# Altium footprint library MaWei.PcbLib: 84 footprints (part 4 of 6)
Each footprint in its own frame and in the unit in brackets; x right, y up, seen from the top. Pads: shape width x height; smd on the part's side, far side on the other; paste and mask are expansions set on the pad; w line width, h text height; cw(c..) or ccw(c..) is an arc to the next point about the centre after c.
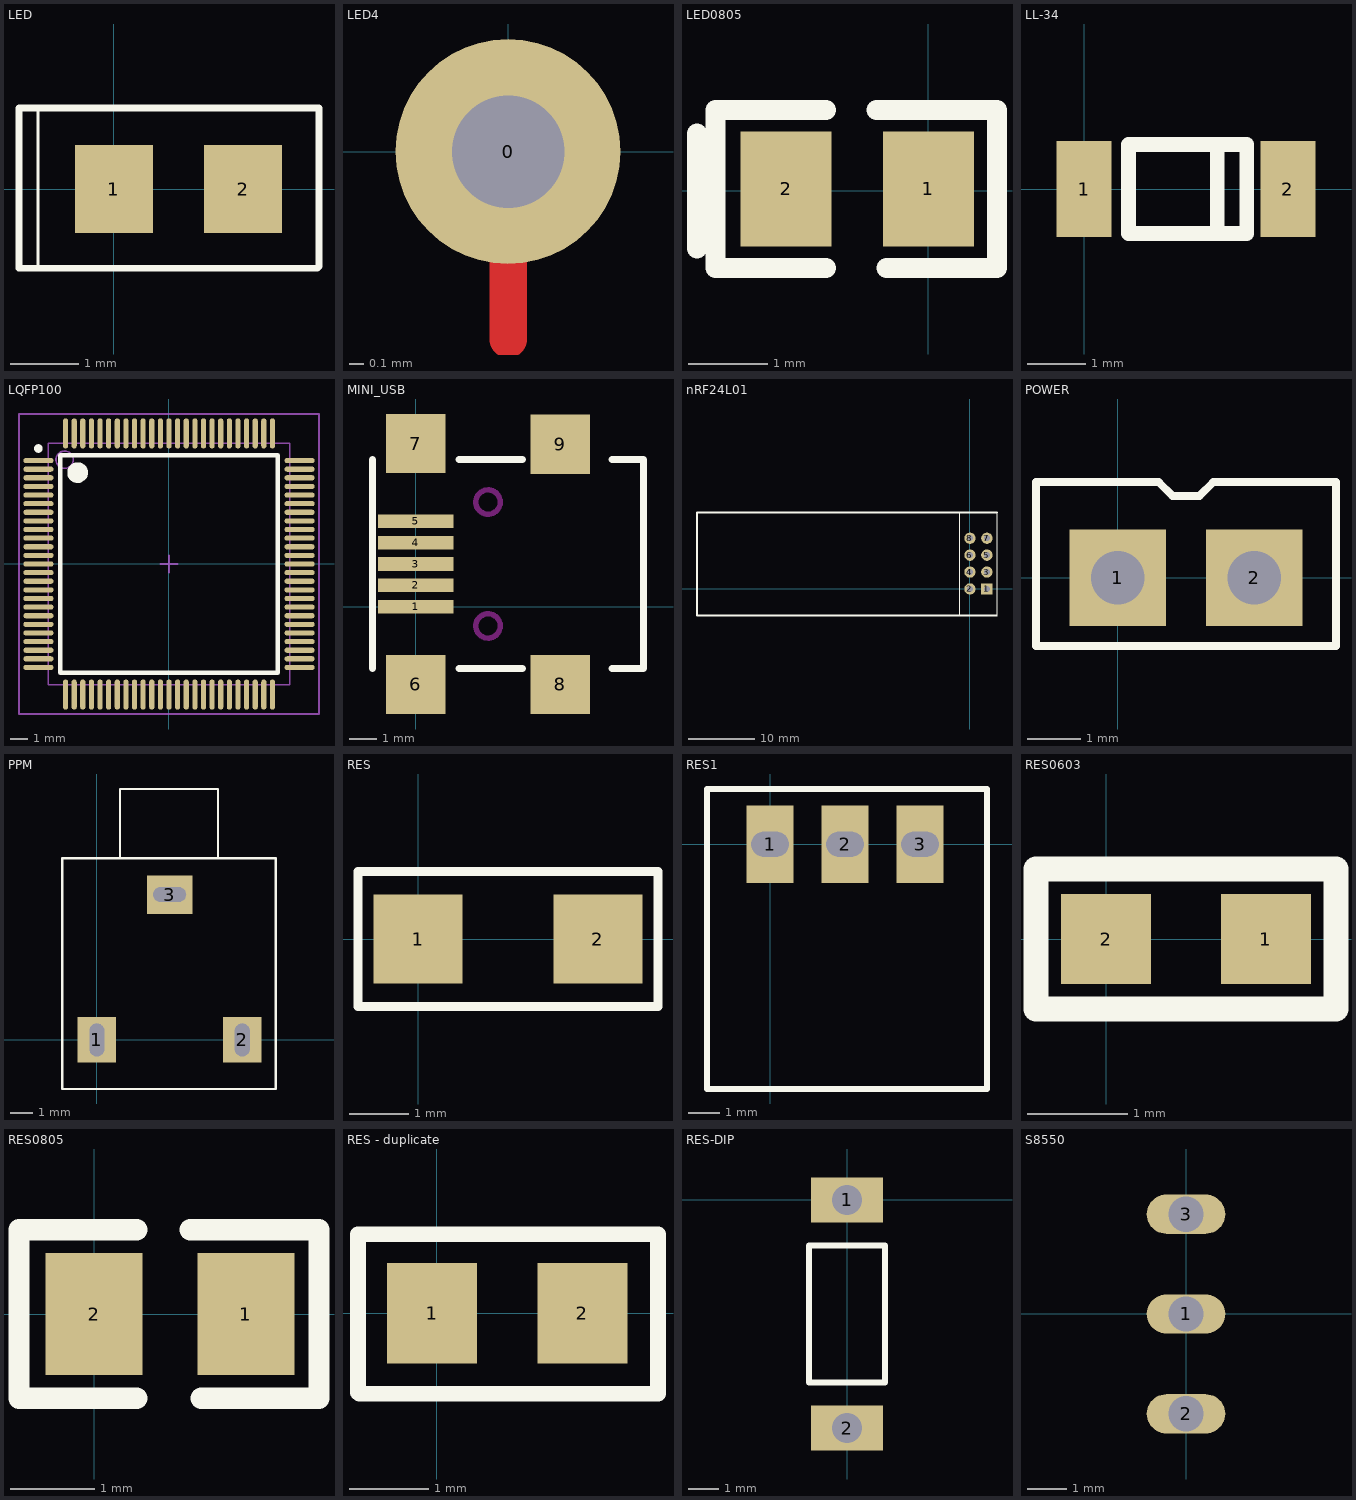
[diagram p3: the footprints below, top view; thin cyan lines are the x and y axes]

## LED [mm]
pads (2):
  rect 1.15x1.3 smd: 1(0,0) 2(1.905,0)
Top Overlay:
  lines w0.05: -1.118,-1.194 -1.118,1.168
  lines w0.1: -1.397,-1.168 -1.397,1.194 -1.092,1.194 3.023,1.194 3.023,-1.143 2.997,-1.168 -1.397,-1.168

## LED4 [mil]
pads (1):
  round 60 hole 30: 0(0,0)
Top Layer:
  lines w10: 0,-50 0,0

## LED0805 [mm] "LED0805"
pads (2):
  rect 1.15x1.45 smd: 1(0,0.025) 2(-1.8,0.025)
Top Overlay:
  lines w0.254: -2.925,-0.725 -2.925,0.725 ; -1.292,-0.975 -2.689,-0.975 -2.689,1.025 -1.292,1.025 ; -0.657,1.025 0.867,1.025 0.867,-0.975 -0.53,-0.975
3D body: height 0.5, standoff 0, extent -1.9,-0.575 0.1,0.625

## LL-34 [mm] "LL-34"
pads (2):
  rect 0.95x1.65 smd: 1(0,0) 2(3.5,0)
Top Overlay:
  lines w0.254: 2.286,-0.762 2.286,0.762 ; 0.762,-0.762 2.794,-0.762 2.794,0.762 0.762,0.762 0.762,-0.762
3D body: height 1.4, standoff 0, extent 0.078,-0.7 3.478,0.7

## LQFP100 [mm] "LQFP100"
height 1.6
pads (100):
  oval 1.75x0.3 smd: 1(-7.575,6) 2(-7.575,5.5) 3(-7.575,5) 4(-7.575,4.5) 5(-7.575,4) 6(-7.575,3.5) 7(-7.575,3) 8(-7.575,2.5) 9(-7.575,2) 10(-7.575,1.5) 11(-7.575,1) 12(-7.575,0.5) 13(-7.575,0) 14(-7.575,-0.5) 15(-7.575,-1) 16(-7.575,-1.5) 17(-7.575,-2) 18(-7.575,-2.5) 19(-7.575,-3) 20(-7.575,-3.5) 21(-7.575,-4) 22(-7.575,-4.5) 23(-7.575,-5) 24(-7.575,-5.5) 25(-7.575,-6) 51(7.575,-6) 52(7.575,-5.5) 53(7.575,-5) 54(7.575,-4.5) 55(7.575,-4) 56(7.575,-3.5) 57(7.575,-3) 58(7.575,-2.5) 59(7.575,-2) 60(7.575,-1.5) 61(7.575,-1) 62(7.575,-0.5) 63(7.575,0) 64(7.575,0.5) 65(7.575,1) 66(7.575,1.5) 67(7.575,2) 68(7.575,2.5) 69(7.575,3) 70(7.575,3.5) 71(7.575,4) 72(7.575,4.5) 73(7.575,5) 74(7.575,5.5) 75(7.575,6)
  oval 0.3x1.75 smd: 26(-6,-7.575) 27(-5.5,-7.575) 28(-5,-7.575) 29(-4.5,-7.575) 30(-4,-7.575) 31(-3.5,-7.575) 32(-3,-7.575) 33(-2.5,-7.575) 34(-2,-7.575) 35(-1.5,-7.575) 36(-1,-7.575) 37(-0.5,-7.575) 38(0,-7.575) 39(0.5,-7.575) 40(1,-7.575) 41(1.5,-7.575) 42(2,-7.575) 43(2.5,-7.575) 44(3,-7.575) 45(3.5,-7.575) 46(4,-7.575) 47(4.5,-7.575) 48(5,-7.575) 49(5.5,-7.575) 50(6,-7.575) 76(6,7.575) 77(5.5,7.575) 78(5,7.575) 79(4.5,7.575) 80(4,7.575) 81(3.5,7.575) 82(3,7.575) 83(2.5,7.575) 84(2,7.575) 85(1.5,7.575) 86(1,7.575) 87(0.5,7.575) 88(0,7.575) 89(-0.5,7.575) 90(-1,7.575) 91(-1.5,7.575) 92(-2,7.575) 93(-2.5,7.575) 94(-3,7.575) 95(-3.5,7.575) 96(-4,7.575) 97(-4.5,7.575) 98(-5,7.575) 99(-5.5,7.575) 100(-6,7.575)
Top Overlay:
  circle w0.25: c-7.575,6.7 r0.125
  circle w0.6: c-5.3,5.3 r0.3
  lines w0.254: -6.3,-6.3 -6.3,6.3 6.3,6.3 6.3,-6.3 -6.3,-6.3
Mechanical 13:
  circle w0.1: c-6.05,6.05 r0.5
  lines w0.1: -7,-7 -7,7 7,7 7,-7 -7,-7
Mechanical 15:
  lines w0.1: -0.5,0 0.5,0 ; 0,-0.5 0,0.5 ; -8.7,-8.7 -8.7,8.7 8.7,8.7 8.7,-8.7 -8.7,-8.7
3D body: height 1.6, standoff 0, extent -8,-8 8,8

## MINI_USB [mil] "MINI_USB"
pads (9):
  rect 110x20 smd: 1(0,0) 2(0,31) 3(0,62) 4(0,93) 5(0,124)
  rect 86x86 smd: 6(0,-113) 7(0,237) 8(210,-113) 9(210,236)
Top Overlay:
  lines w10: -63,-90 -63,214 ; 62.99,-90 155,-90 ; 62.99,214 155,214 ; 285,-90 331,-90 331,214 285,214
Keep-Out Layer:
  circle w7.87: c105,-28 r17.72
  circle w7.87: c105,152 r17.72
3D body: height 155.51, standoff -39.37, extent -35.43,-150.58 326.77,270.68

## nRF24L01 [mm]
height 10
pads (8):
  rect 1.7x1.7 hole 0.9: 1(2.54,0)
  round 1.7 hole 0.9: 2(0,0) 3(2.54,2.54) 4(0,2.54) 5(2.54,5.08) 6(0,5.08) 7(2.54,7.62) 8(0,7.62)
Top Overlay:
  lines w0.1: -1.524,-4 -1.524,11.5 4.064,11.5 4.064,-4 -1.524,-4
  lines w0.254: 4,-4 -41,-4 -41,11.5 4.064,11.5

## POWER [mm]
pads (2):
  rect 1.8x1.8 hole 1: 1(0,0) 2(2.54,0)
Top Overlay:
  lines w0.15: -1.524,-1.27 4.064,-1.27 4.064,1.778 1.778,1.778 1.524,1.524 1.016,1.524 0.762,1.778 -1.524,1.778 -1.524,-1.27

## PPM [mm]
pads (3):
  rect 1.7x2 hole 0.65 slot 1.45 at 90 deg: 1(0,0) 2(6.401,0)
  rect 2x1.7 hole 0.65 slot 1.45 at 0 deg: 3(3.2,6.401)
Top Overlay:
  lines w0.1: 1.016,8.001 1.016,11.049 5.334,11.049 5.334,8.001 ; -1.524,-2.159 7.874,-2.159 7.874,8.001 -1.524,8.001 -1.524,-2.159

## RES [mm]
pads (2):
  rect 1.5x1.5 smd: 1(0,0) 2(3.048,0)
Top Overlay:
  lines w0.15: -1.016,-1.143 4.064,-1.143 4.064,1.143 -1.016,1.143 -1.016,-1.143

## RES1 [mm]
pads (3):
  rect 1.5x2.5 hole 0.8 slot 1.2 at 0 deg: 1(0,0) 2(2.413,0) 3(4.826,0)
Top Overlay:
  lines w0.2: -2.032,-7.874 6.985,-7.874 6.985,1.778 -2.032,1.778 -2.032,-7.874

## RES0603 [mm] "RES0603"
pads (2):
  rect 0.9x0.9 smd: 1(1.6,0) 2(0,0)
Top Overlay:
  lines w0.254: -0.7,-0.7 -0.7,0.7 2.3,0.7 2.3,-0.7 -0.7,-0.7
3D body: height 0.38, standoff 0, extent 0,-0.4 1.6,0.4

## RES0805 [mm] "RES0805"
pads (2):
  rect 1.15x1.45 smd: 1(1.8,0) 2(0,0)
Top Overlay:
  lines w0.254: 0.508,-1 -0.889,-1 -0.889,1 0.508,1 ; 1.143,1 2.667,1 2.667,-1 1.27,-1
3D body: height 0.5, standoff 0, extent -0.1,-0.6 1.9,0.6

## RES - duplicate [mm]
pads (2):
  rect 1.14x1.27 smd: 1(-0.061,0) 2(1.839,0)
Top Overlay:
  lines w0.2: -0.996,-1 -0.996,0 -0.996,1 2.794,1 2.794,-1.016 -0.98,-1.016

## RES-DIP [mm]
pads (2):
  rect 2.4x1.5 hole 1: 1(0,0) 2(0,-7.62)
Top Overlay:
  lines w0.2: -1.27,-6.096 -1.27,-1.524 1.27,-1.524 1.27,-6.096 -1.27,-6.096

## S8550 [mm]
pads (3):
  oval 2x1 hole 0.9: 1(0,0) 2(0,-2.54) 3(0,2.54)
Bottom Overlay:
  lines w0.2: 2.54,-2.794 2.54,2.794 ; 2.569,2.825 ccw(c0,0) 2.569,-2.825